# EAGLE library part RDA1846 (library rda1846)
GATE Source: Datasheet <https://datasheetspdf.com/mobile/1473066/RDA/RDA1846/1>
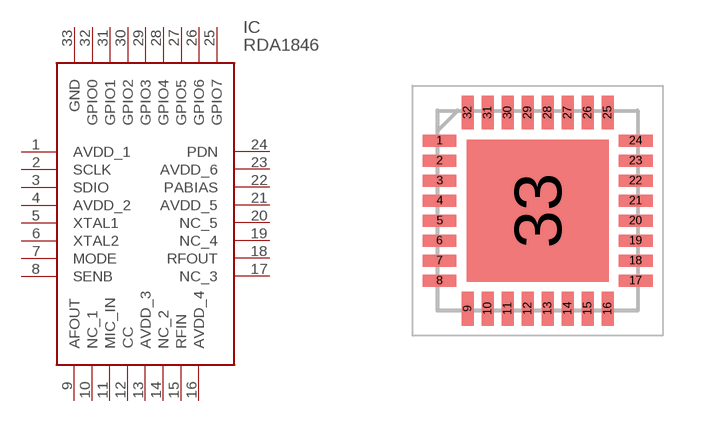
[diagram p0: symbol with the pads of QFN50P500X500X100-33N; footprint QFN50P500X500X100-33N]

Designator prefix IC

## RDA1846 (Arrow_Part_Number: rda1846; Description: GATE; Height: 1mm; Manufacturer_Name: RDA Microelectronics; Manufacturer_Part_Number: rda1846)  [QFN50P500X500X100-33N]
1  AVDD_1
2  SCLK
3  SDIO
4  AVDD_2
5  XTAL1
6  XTAL2
7  MODE
8  SENB
9  AFOUT
10  NC_1
11  MIC_IN
12  CC
13  AVDD_3
14  NC_2
15  RFIN
16  AVDD_4
17  NC_3
18  RFOUT
19  NC_4
20  NC_5
21  AVDD_5
22  PABIAS
23  AVDD_6
24  PDN
25  GPIO7
26  GPIO6
27  GPIO5
28  GPIO4
29  GPIO3
30  GPIO2
31  GPIO1
32  GPIO0
33  GND

## Footprint QFN50P500X500X100-33N (pad centres in mm)
GATE
smd 0.85 x 0.3: 1 -2.45,1.75; 2 -2.45,1.25; 3 -2.45,0.75; 4 -2.45,0.25; 5 -2.45,-0.25; 6 -2.45,-0.75; 7 -2.45,-1.25; 8 -2.45,-1.75; 17 2.45,-1.75; 18 2.45,-1.25; 19 2.45,-0.75; 20 2.45,-0.25; 21 2.45,0.25; 22 2.45,0.75; 23 2.45,1.25; 24 2.45,1.75
smd 0.3 x 0.85: 9 -1.75,-2.45; 10 -1.25,-2.45; 11 -0.75,-2.45; 12 -0.25,-2.45; 13 0.25,-2.45; 14 0.75,-2.45; 15 1.25,-2.45; 16 1.75,-2.45; 25 1.75,2.45; 26 1.25,2.45; 27 0.75,2.45; 28 0.25,2.45; 29 -0.25,2.45; 30 -0.75,2.45; 31 -1.25,2.45; 32 -1.75,2.45
smd 3.55 x 3.55: 33 0,0